# Altium integrated library Battery Holders Clips Contacts.IntLib: 2 symbols
Pins are listed as number, name and electrical type; pins without a type are passive.

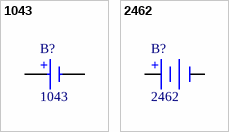
[diagram p0: symbols 1043 to 2462]

## 1043
designator B?
BATTERY HOLDER 18650 PC PIN; Manufacturer: Keystone Electronics; Battery Cell Size: 18650; Battery Type, Function: Cylindrical, Holder; Number of Cells: 1; Style: Holder (Open); Part Number: 1043; ComponentLink1Description: Datasheet; ComponentLink1URL: http://keyelco.com/userAssets/file/M65p27.pdf; ComponentLink2Description: DigiKey Link; ComponentLink2URL: http://digikey.com/product-detail/en/keystone-electronics/1043/36-1043-ND/2745669; Height Above Board: 0.585" (14.86mm); LastUpdated: 2/2/2020 9:19:56 AM; Lifecycle Status: Active; Minimum Order: 1; Mounting Type: PCB, Through Hole; Operating Temperature: -50°C ~ 145°C; Packaging: Unknown; PartId: 2; Part Status: Active; Price: 2.58; Series: -; Supplier 1: DigiKey; Supplier Part Number 1: 36-1043-ND; Termination Style: PC Pin
footprint KEYSTONE 1043
pins: 1 +, 2 -

## 2462
designator B?
BATTERY HOLDER AA 2 CELL PC PIN; Manufacturer: Keystone Electronics; Battery Type, Function: Cylindrical, Holder; Number of Cells: 2; Style: Holder (Open); Part Number: 2462; Battery Cell Size: AA; ComponentLink1Description: Datasheet; ComponentLink1URL: http://keyelco.com/userAssets/file/M65p28.pdf; ComponentLink2Description: DigiKey Link; ComponentLink2URL: //digikey.com/product-detail/en/keystone-electronics/2462/36-2462-ND/303811; Height Above Board: 0.630" (16.00mm); LastUpdated: 12/3/2019 12:18:49 AM; Lifecycle Status: 0; Minimum Order: 1; Mounting Type: PCB, Through Hole; Packaging: Unknown; PartId: 1; Part Status: Active; Price: 1.15; Series: -; Supplier 1: DigiKey; Supplier Part Number 1: 36-2462-ND; Termination Style: PC Pin
footprint KEYSTONE 2462
pins: 1 +, 2 -